# EAGLE library part BC856BS (library AWJLEagleLib)
BC85xBS matched PNP transistor pair
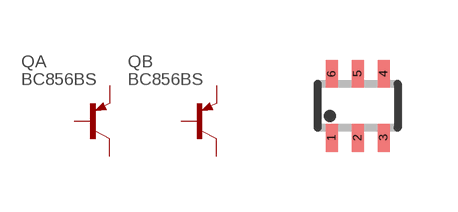
[diagram p3: symbol with the pads of SOT-363; footprint SOT-363]

Designator prefix Q; gates A=PNP B=PNP

## BC856BS (VALUE: BC85x)  [SOT-363]
1  A:E  pas
2  A:B  pas
3  B:C  pas
4  B:E  pas
5  B:B  pas
6  A:C  pas

## Footprint SOT-363 (pad centres in mm)
smd 0.3 x 0.7: 1 -0.65,-0.8; 2 0,-0.8; 3 0.65,-0.8; 4 0.65,0.8; 5 0,0.8; 6 -0.65,0.8